# EAGLE library part 1-776163-1 (library 1-776163-1)
CONN HEADER 35POS R/A GOLD BLACK
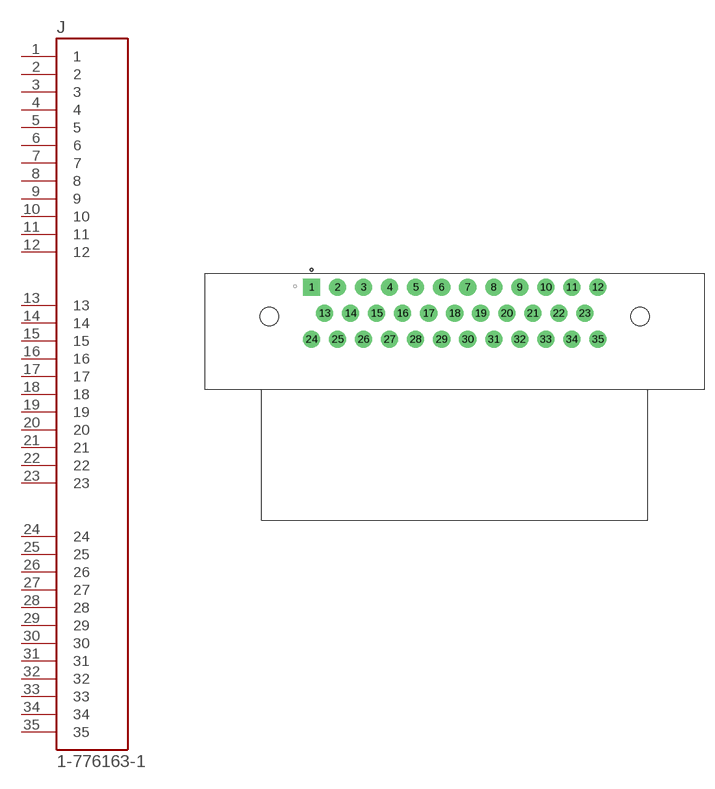
[diagram p0: symbol with the pads of TE_1-776163-1; footprint TE_1-776163-1]

Designator prefix J

## 1-776163-1 (COMPLIANCE: Lead free/RoHS compliant; CURRENT_RATING: Varies by Wire gauge; DATASHEET: http://www.te.com/commerce/DocumentDelivery/DDEController?Action=srchrtrv&DocNm=776163&DocType=Customer+Drawing&DocLang=English; FOOTPRINT: TE_1-776163-1; LATEST_REV_DATE: 09, March 2016; LIBRARY_REF: 1-776163-1.lbr; MANUFACTURER: TE Connectivity; PACKAGE: Panel Mount, Through Hole, Right angled; PART_DESCRIPTION: CONN HEADER 35POS R/A GOLD BLACK; PART_REV: J8; PITCH: 4mm; POS: 35; STANDARD: Manufacturer Recommendations; TE_PN: 1-776163-1; VOLTAGE_RATING: 250VAC)  [TE_1-776163-1]
1  1  pas
2  2  pas
3  3  pas
4  4  pas
5  5  pas
6  6  pas
7  7  pas
8  8  pas
9  9  pas
10  10  pas
11  11  pas
12  12  pas
13  13  pas
14  14  pas
15  15  pas
16  16  pas
17  17  pas
18  18  pas
19  19  pas
20  20  pas
21  21  pas
22  22  pas
23  23  pas
24  24  pas
25  25  pas
26  26  pas
27  27  pas
28  28  pas
29  29  pas
30  30  pas
31  31  pas
32  32  pas
33  33  pas
34  34  pas
35  35  pas

## Footprint TE_1-776163-1 (pad centres in mm)
drill 1.75 square: 1 -22,4
drill 1.75: 2 -18,4; 3 -14,4; 4 -10,4; 5 -6,4; 6 -2,4; 7 2,4; 8 6,4; 9 10,4; 10 14,4; 11 18,4; 12 22,4; 13 -20,0; 14 -16,0; 15 -12,0; 16 -8,0; 17 -4,0; 18 0,0; 19 4,0; 20 8,0; 21 12,0; 22 16,0; 23 20,0; 24 -22,-4; 25 -18,-4; 26 -14,-4; 27 -10,-4; 28 -6,-4; 29 -2,-4; 30 2,-4; 31 6,-4; 32 10,-4; 33 14,-4; 34 18,-4; 35 22,-4
hole 2.85 at -28.5,-0.5
hole 2.85 at 28.5,-0.5